# Altium footprint library LED 3MM Verde.PcbLib: 1 footprints
Each footprint in its own frame and in the unit in brackets; x right, y up, seen from the top. Pads: shape width x height; smd on the part's side, far side on the other; paste and mask are expansions set on the pad; w line width, h text height; cw(c..) or ccw(c..) is an arc to the next point about the centre after c.
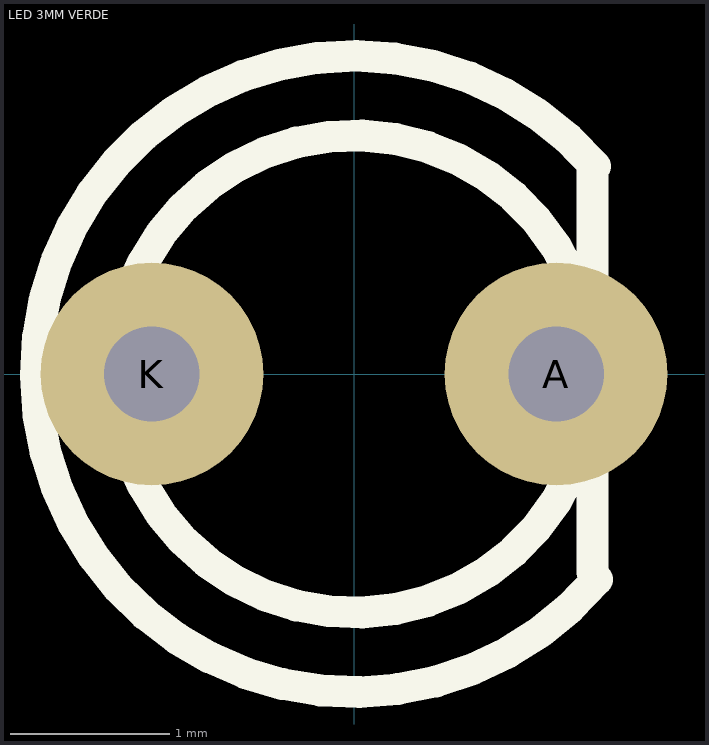
[diagram p0: the footprint, top view; thin cyan lines are the x and y axes]

## LED 3MM VERDE [mm] "LED 3MM"
pads (2):
  round 1.4 hole 0.6: A(1.27,0) K(-1.27,0)
Top Overlay:
  circle w0.2: c0,0 r1.5
  lines w0.2: 1.5,-1.246 1.5,0 1.5,1.294 ; 1.514,1.306 ccw(c0,0) 1.527,-1.292
3D body "LED_3MM_VERDE.STEP": height 5.49, standoff -4, extent -1.87,-1.87 1.5,1.87